# Altium schematic symbol library TRANS-EP-DSG.SCHLIB: 1 symbol
Pins are listed as number, name and electrical type; pins without a type are passive.

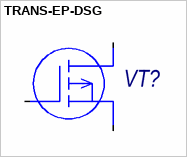
[diagram p0: symbol TRANS-EP-DSG]

## TRANS-EP-DSG
designator VT?
MOSFET
pins: 1 D, 2 S, 3 G